# Altium schematic symbol library DC-DC.SchLib: 9 symbols
Pins are listed as number, name and electrical type; pins without a type are passive.

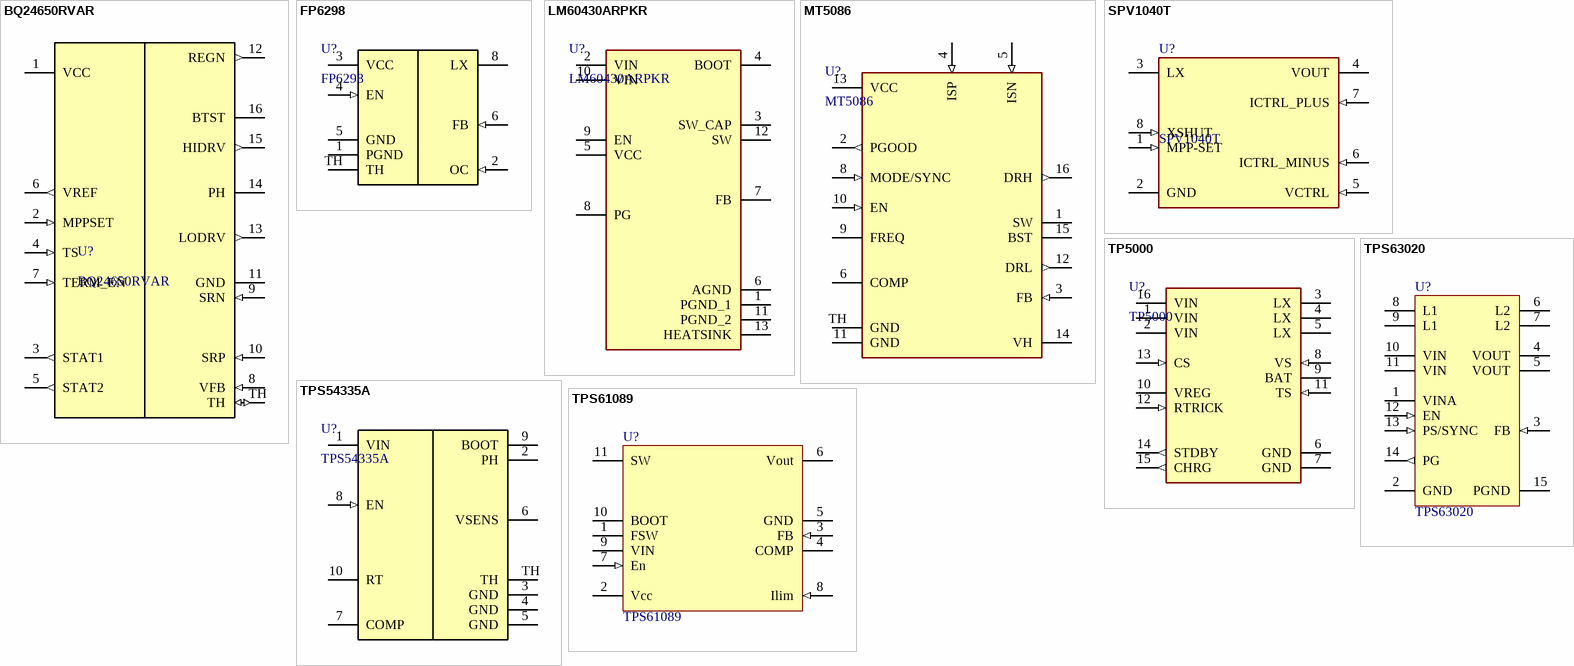
[diagram p0: symbols BQ24650RVAR to TPS63020]

## BQ24650RVAR
designator U?
MPPT charger
footprint QFN-16(3,5x3,5)
pins: 1 VCC (power), 2 MPPSET (in), 3 STAT1 (out), 4 TS (in), 5 STAT2 (out), 6 VREF (out), 7 TERM_EN (in), 8 VFB (in), 9 SRN (in), 10 SRP (in), 11 GND (power), 12 REGN (out), 13 LODRV (out), 14 PH (power), 15 HIDRV (out), 16 BTST (power), TH (io)

## FP6298
designator U?
boost not-synq wEN woPG wCL
footprint SO-8(EP) (Small Outline; 8 Leads; Body Width 3.9 mm; Pitch 1.27 mm)
pins: 1 PGND (power), 2 OC (in), 3 VCC (power), 4 EN (in), 5 GND (power), 6 FB (in), 8 LX (power), TH (power)

## LM60430ARPKR
designator U?
Buck 3A; Manufacturer_Name: Texas Instruments; Datasheet Link: https://www.ti.com/lit/ds/symlink/lm60430.pdf?ts=1607209467482; Height: 0.7mm; Manufacturer_Part_Number: LM60430ARPKR; Mouser Part Number: 595-LM60430ARPKR; Mouser Price/Stock: https://www.mouser.co.uk/ProductDetail/Texas-Instruments/LM60430ARPKR?qs=bAKSY%2FctAC5Dkeh3l7Dbkw%3D%3D; Arrow Part Number: LM60430ARPKR; Arrow Price/Stock: https://www.arrow.com/en/products/lm60430arpkr/texas-instruments?region=nac
footprint WQFN-13
pins: 1 PGND_1, 2 VIN, 3 SW_CAP, 4 BOOT, 5 VCC, 6 AGND, 7 FB, 8 PG, 9 EN, 10 VIN, 11 PGND_2, 12 SW, 13 HEATSINK

## MT5086
designator U?
boost controller
footprint QFN-16(3,5x3,5)
pins: 1 SW (power), 2 PGOOD (out), 3 FB (in), 4 ISP (in), 5 ISN (in), 6 COMP, 8 MODE/SYNC (in), 9 FREQ, 10 EN (in), 11 GND (power), 12 DRL (out), 13 VCC (power), 14 VH (power), 15 BST (power), 16 DRH (out), TH GND (power)

## SPV1040T
designator U?
MPPT; Manufacturer_Name: STMicroelectronics; Datasheet Link: http://www.mouser.com/ds/2/389/spv1040-974182.pdf; Height: 1.2mm; Manufacturer_Part_Number: SPV1040T; Mouser Part Number: 511-SPV1040T; Mouser Price/Stock: https://www.mouser.co.uk/ProductDetail/STMicroelectronics/SPV1040T?qs=7qOP6AeGKU1lga8RjcaFUQ%3D%3D; Arrow Part Number: SPV1040T; Arrow Price/Stock: https://www.arrow.com/en/products/spv1040t/stmicroelectronics?region=nac
footprint TSSOP-8 (TSOP, 8-Leads, Body 3,1x4,5mm (max), Pitch 0,65mm, IPC Medium Density)
pins: 1 MPP-SET (in), 2 GND (power), 3 LX (power), 4 VOUT (power), 5 VCTRL (in), 6 ICTRL_MINUS (in), 7 ICTRL_PLUS (in), 8 XSHUT (in)

## TP5000
designator U?
Buck DC-DC li-ion/fepo4 charger ic
footprint QFN-16(4x4)
pins: 1 VIN (power), 2 VIN (power), 3 LX (power), 4 LX (power), 5 LX (power), 6 GND (power), 7 GND (power), 8 VS (in), 9 BAT (power), 10 VREG (power), 11 TS (in), 12 RTRICK (in), 13 CS (in), 14 STDBY (out), 15 CHRG (out), 16 VIN (power)

## TPS54335A
designator U?
buck sync wEN woPG
footprint VSON-10
pins: 1 VIN (power), 2 PH (power), 3 GND (power), 4 GND (power), 5 GND (power), 6 VSENS (power), 7 COMP (power), 8 EN (in), 9 BOOT (power), 10 RT (power), TH (power)

## TPS61089
designator U?
Boost 7A synq wEn woPG wILIM wCOMP; Order: TPS61089; LCSC Part #: C99198
footprint VQFN-11
pins: 1 FSW (power), 2 Vcc (power), 3 FB (in), 4 COMP (power), 5 GND (power), 6 Vout (power), 7 En (in), 8 Ilim (in), 9 VIN (power), 10 BOOT (power), 11 SW (power)

## TPS63020
designator U?
DC-DC buck-boost 3.5A; LCSC Part #: TPS63020
footprint QFN-14M (QFN, 14-Leads, Body 4,00x3,00mm, Pitch 0,50mm, Thermal Pad 2,85x1,58mm, IPC Low Density)
pins: 1 VINA (power), 2 GND (power), 3 FB (in), 4 VOUT (power), 5 VOUT (power), 6 L2 (power), 7 L2 (power), 8 L1 (power), 9 L1 (power), 10 VIN (power), 11 VIN (power), 12 EN (in), 13 PS/SYNC (in), 14 PG (out), 15 PGND (power)